# Altium schematic symbol library SCH - POWER - SWITCHMODE - TI TPS65300-Q1PWP.SchLib: 1 symbol
Pins are listed as number, name and electrical type; pins without a type are passive.

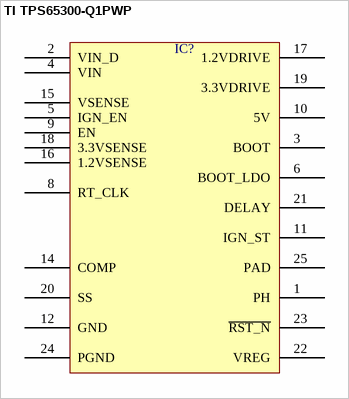
[diagram p0: symbol TI TPS65300-Q1PWP]

## TI TPS65300-Q1PWP
designator IC?  (value not drawn)
pins: 1 PH, 2 VIN_D, 3 BOOT, 4 VIN, 5 IGN_EN, 6 BOOT_LDO, 8 RT_CLK, 9 EN, 10 5V, 11 IGN_ST, 12 GND, 14 COMP, 15 VSENSE, 16 1.2VSENSE, 17 1.2VDRIVE, 18 3.3VSENSE, 19 3.3VDRIVE, 20 SS, 21 DELAY, 22 VREG, 23 ~{RST_N}, 24 PGND, 25 PAD